# Altium schematic symbol library Mouse bit.Schlib: 1 symbol
Pins are listed as number, name and electrical type; pins without a type are passive.

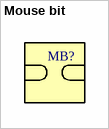
[diagram p0: symbol Mouse bit]

## Mouse bit
designator MB?  (value not drawn)
=description